# Altium footprint library Discrete_Filters_EMI_LC_SMD.PcbLib: 1 footprints
Each footprint in its own frame and in the unit in brackets; x right, y up, seen from the top. Pads: shape width x height; smd on the part's side, far side on the other; paste and mask are expansions set on the pad; w line width, h text height; cw(c..) or ccw(c..) is an arc to the next point about the centre after c.
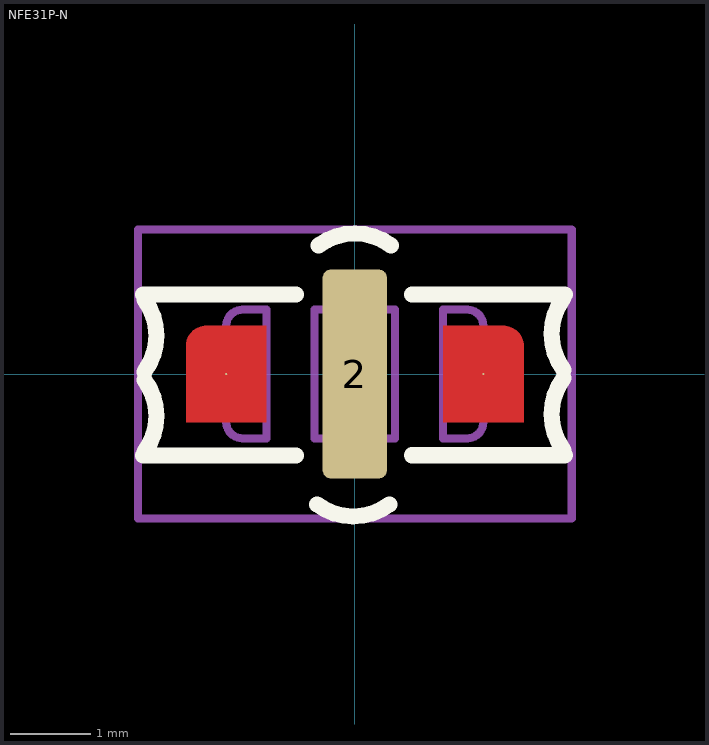
[diagram p0: the footprint, top view; thin cyan lines are the x and y axes]

## NFE31P-N [mm]
height 1.6
pads (3):
  round 0.025 smd: 1(-1.6,0) 3(1.6,0)
  rrect25% 0.8x2.6 smd: 2(0,0)
Top Layer:
  region: -1.85,0.6 -1.1,0.6 -1.1,-0.6 -2.1,-0.6 -2.1,0.35 -2.1,0.375 -2.09,0.423 -2.072,0.468 -2.044,0.509 -2.009,0.544 -1.968,0.572 -1.923,0.59 -1.875,0.6
  region: 2.1,-0.6 1.1,-0.6 1.1,0.6 1.85,0.6 1.875,0.6 1.923,0.59 1.968,0.572 2.009,0.544 2.044,0.509 2.072,0.468 2.09,0.423 2.1,0.375 2.1,0.35
Top Overlay:
  lines w0.2: -2.632,-1.012 -0.732,-1.012 ; -2.632,0.988 -0.732,0.988 ; -2.62,-0.973 ccw(c-3.22,-0.523) -2.62,-0.073 ; -2.62,0.027 ccw(c-3.22,0.477) -2.62,0.927 ; -0.47,-1.623 ccw(c-0.02,-1.023) 0.43,-1.623 ; -0.45,1.6 cw(c0,1) 0.45,1.6 ; 0.713,-1.011 2.613,-1.011 ; 0.713,0.989 2.613,0.989 ; 2.6,-0.95 cw(c3.2,-0.5) 2.6,-0.05 ; 2.6,0.05 cw(c3.2,0.5) 2.6,0.95
Top Package:
  lines w0.1: -1.6,-0.6 ccw(c-1.4,-0.6) -1.4,-0.8 -1.1,-0.8 -1.1,0.8 -1.4,0.8 ccw(c-1.4,0.6) -1.6,0.6 -1.6,-0.6 ; -0.5,-0.8 -0.5,0.8 0.5,0.8 0.5,-0.8 -0.5,-0.8 ; 1.1,-0.8 1.1,0.8 1.4,0.8 cw(c1.4,0.6) 1.6,0.6 1.6,-0.6 cw(c1.4,-0.6) 1.4,-0.8 1.1,-0.8
Top Comment:
  text ".Comment" at -1.703,2.009 h1.2
Top Designator:
  text ".Designator" at -2.581,2.05 h1.5
Top Border:
  lines w0.1: -0.25,0 0.25,0 ; 0,-0.25 0,0.25 ; -2.7,-1.8 -2.7,1.8 2.7,1.8 2.7,-1.8 -2.7,-1.8
3D body "NFE31P.STEP": height 1.64, standoff -0.04, extent -1.6,-0.833 1.6,0.849